# Altium schematic symbol library Display.SchLib: 2 symbols
Pins are listed as number, name and electrical type; pins without a type are passive.

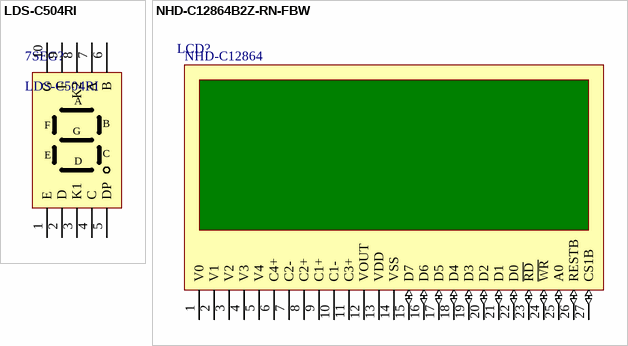
[diagram p0: symbols LDS-C504RI to NHD-C12864B2Z-RN-FBW]

## LDS-C504RI
designator 7SEG?
LED 7-SEG .50 SNGL RED CC DIRECT; Manufacturer: Lumex Opto/Components Inc; Mount Type: PTH; Supplier 1: Digi-Key; Supplier Part Number 1: 67-1453-ND; Supplier 2: Mouser; Supplier Part Number 2: 696-LDS-C504RI; Value: LDS-C504RI
footprint 7 SEG RED 19.0x12.7x8mm
pins: 1 E, 2 D, 3 K1, 4 C, 5 DP, 6 B, 7 A, 8 K2, 9 F, 10 G

## NHD-C12864B2Z-RN-FBW
designator LCD?  value NHD-C12864  (hidden comment: NHD-C12864B2Z-RN-FBW)
LCD COG GRAPH 128X64 REFLECT; Manufacturer: Newhaven Display Intl; Mount Type: PANEL; Supplier 1: Mouser; Supplier 2: Digi-Key; Supplier Part Number 1: 763-C12864B2Z-RN-FBW; Supplier Part Number 2: NHD-C12864B2Z-RN-FBW-ND
footprint NHD-C12864 (LCD Graphic 128x64)
pins: 1 V0 (power), 2 V1 (power), 3 V2 (power), 4 V3 (power), 5 V4 (power), 6 C4+ (power), 7 C2- (power), 8 C2+ (power), 9 C1+ (power), 10 C1- (power), 11 C3+ (power), 12 VOUT (power), 13 VDD (power), 14 VSS (power), 15 D7 (io), 16 D6 (io), 17 D5 (io), 18 D4 (io), 19 D3 (io), 20 D2 (io), 21 D1 (io), 22 D0 (io), 23 ~{RD} (io), 24 ~{WR} (io), 25 A0 (io), 26 RESTB (io), 27 CS1B (io)